# EAGLE library part TCM8240MD (library SparkFun-Sensors_Smight)
Toshiba TCM8240MD 1.3MP Color Image Sensor The TCM8240MD is a high quality, very small 1.3 mega-pixel color camera from Toshiba with the standard data+I2C interface. The nice thing is that we have a good supplier of these cameras, so they should be around for some time. This camera is also unique in that it offers on-board JPEG compression. Datasheet <http://www.sparkfun.com/datasheets/Sensors/Imaging/TCM8240MD_E150405_REV13.pdf> SparkFun Products CMOS Camera - 1300x1040 <https://www.sparkfun.com/products/retired/8668> (SEN-08668) TCM8240 Camera Breakout <https://www.sparkfun.com/products/retired/9504> (BOB-09504)
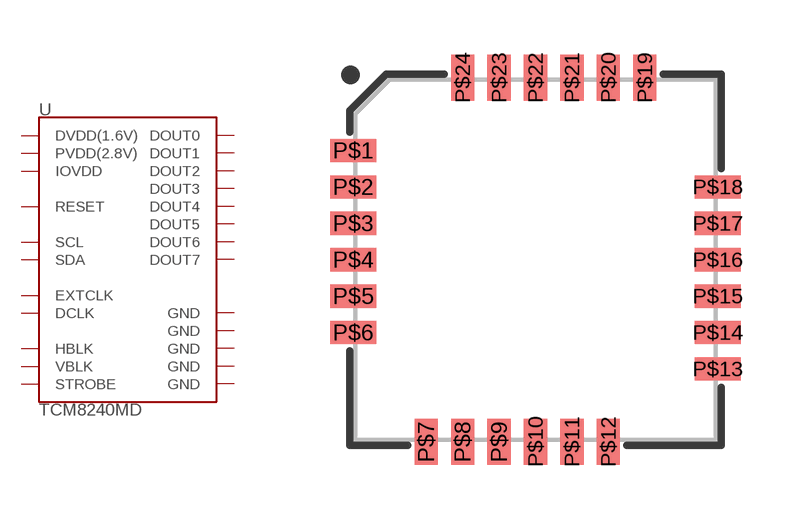
[diagram p13: symbol with the pads of TCM8240MD; footprint TCM8240MD]

Designator prefix U

## TCM8240MD (PROD_ID: COMP-09354; SF_ID: SEN-08668)  [TCM8240MD]
P$1  DOUT3
P$2  DOUT2
P$3  DOUT1
P$4  DOUT0
P$5  GND
P$6  PVDD(2.8V)
P$7  RESET
P$8  SCL
P$9  GND
P$10  SDA
P$11  GND
P$12  DVDD(1.6V)
P$13  EXTCLK
P$14  STROBE
P$15  HBLK
P$16  VBLK
P$17  GND
P$18  IOVDD
P$19  DCLK
P$20  GND
P$21  DOUT7
P$22  DOUT6
P$23  DOUT5
P$24  DOUT4

## Footprint TCM8240MD (pad centres in mm)
TCM8240 CMOS Camera Datasheet <https://www.sparkfun.com/datasheets/Sensors/Imaging/TCM8240MD_E150405_REV13.pdf> Specifications: Pin Count: 24 Area: 10 x 10 x 7.0 mm Pitch: 1 mm Devices Using: TCM8240MD
smd 1.27 x 0.635: P$1 -5,3; P$2 -5,2; P$3 -5,1; P$4 -5,0; P$5 -5,-1; P$6 -5,-2; P$13 5,-3; P$14 5,-2; P$15 5,-1; P$16 5,0; P$17 5,1; P$18 5,2
smd 0.635 x 1.27: P$7 -3,-5; P$8 -2,-5; P$9 -1,-5; P$10 0,-5; P$11 1,-5; P$12 2,-5; P$19 3,5; P$20 2,5; P$21 1,5; P$22 0,5; P$23 -1,5; P$24 -2,5